# Altium footprint library con-cui.PCBLIB: 1 footprints
Each footprint in its own frame and in the unit in brackets; x right, y up, seen from the top. Pads: shape width x height; smd on the part's side, far side on the other; paste and mask are expansions set on the pad; w line width, h text height; cw(c..) or ccw(c..) is an arc to the next point about the centre after c.
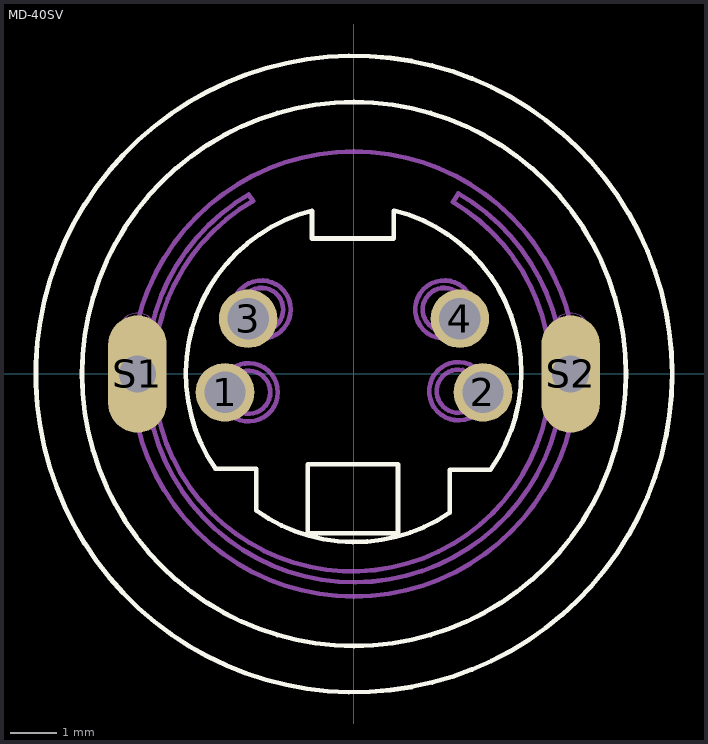
[diagram p0: the footprint, top view; thin cyan lines are the x and y axes]

## MD-40SV [mil]
pads (6):
  round 50 hole 35.43: 1(-110.24,-15.75) 2(110.24,-15.75) 3(-90.55,47.24) 4(90.55,47.24)
  oval 50x100 hole 31.5: S1(-185.04,0) S2(185.04,0)
Top Overlay:
  circle w4: c0,0 r271.91
  circle w4: c0,0 r232.41
  lines w4: 33.99,139.63 33.99,115.75 -35.83,115.75 -35.83,139.63 ccw(c0,0.46) -118.5,-80.84 -83.59,-80.84 -83.59,-116.67 ccw(c0.39,0.67) 81.76,-118.5 81.76,-81.76 116.67,-81.76 ccw(c-0.14,0.89) 34.91,139.63 ; -39.5,-135.96 -39.5,-77.17 37.67,-77.17 37.67,-135.96 -39.5,-135.96
Mechanical 11:
  lines w0: -169.29,37.4 -169.29,36.42 ; 169.29,37.4 169.29,36.42 ; -169.29,36.42 -169.29,-4.92 cw(c-185.04,-4.92) -200.79,-4.92 -200.79,36.42 cw(c-185.04,36.42) -169.29,36.42 ; 169.29,36.42 169.29,-4.92 ccw(c185.04,-4.92) 200.79,-4.92 200.79,36.42 ccw(c185.04,36.42) 169.29,36.42
Mechanical 16:
  circle w4: c0,0 r190.16
  circle w4: c-79,55.11 r24.87
  circle w4: c-79,55.11 r18.46
  circle w4: c-90.02,-15.62 r24.87
  circle w4: c-90.02,-15.62 r18.46
  circle w4: c89.11,-14.7 r24.87
  circle w4: c89.11,-14.7 r18.46
  circle w4: c77.17,55.11 r24.87
  circle w4: c77.17,55.11 r18.46
  lines w4: -90.02,153.41 ccw(c0.34,0) 89.11,154.33 84.51,146.98 cw(c-1.71,0.92) -86.35,147.9 -90.02,153.41